# Altium footprint library Magway.PcbLib: 38 footprints (part 2 of 3)
Each footprint in its own frame and in the unit in brackets; x right, y up, seen from the top. Pads: shape width x height; smd on the part's side, far side on the other; paste and mask are expansions set on the pad; w line width, h text height; cw(c..) or ccw(c..) is an arc to the next point about the centre after c.
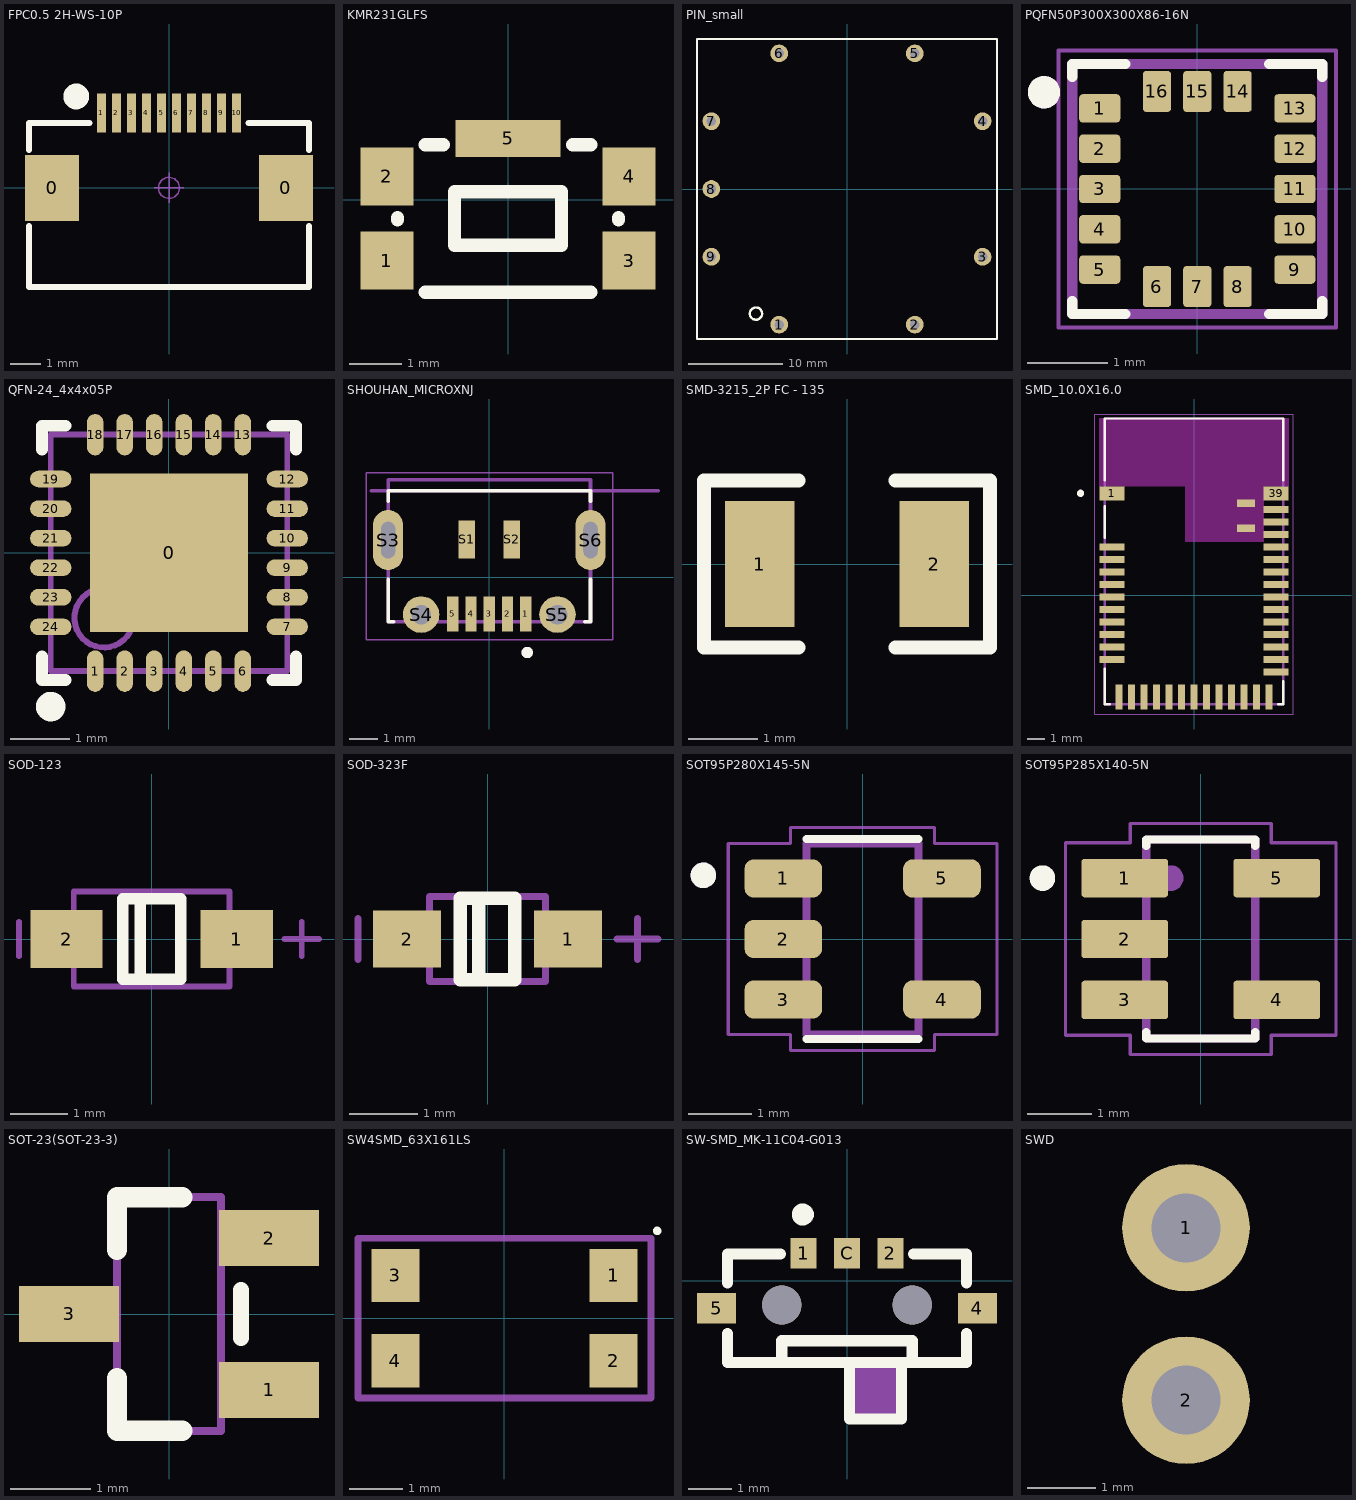
[diagram p1: the footprints below, top view; thin cyan lines are the x and y axes]

## FPC0.5 2H-WS-10P [mm] "长：9.2mm，宽：5.2mm，高：2mm 淘宝ID:黄晶宝石   店铺网址:https://shop463601444.taobao.com"
pads (12):
  rect 1.8x2.2 smd: 0(-3.9,0) 0(3.9,0)
  rect 0.3x1.3 smd: 1(-2.25,2.497) 2(-1.75,2.497) 3(-1.25,2.497) 4(-0.75,2.497) 5(-0.25,2.497) 6(0.25,2.497) 7(0.75,2.497) 8(1.25,2.497) 9(1.75,2.497) 10(2.25,2.497)
Top Overlay:
  circle w0.5: c-3.094,3.048 r0.18
  lines w0.2: -4.675,-1.27 -4.675,-3.302 4.675,-3.302 4.675,-1.27 ; -4.675,1.27 -4.675,2.159 -2.643,2.159 ; 2.643,2.159 4.675,2.159 4.675,1.27
Mechanical 15:
  circle w0.05: c0,0 r0.35
  lines w0.05: -0.5,0 0.5,0 ; 0,-0.5 0,0.5
3D body "FPC0.5_2H-S-W-10P.STEP": height 2, standoff -0.01, extent -4.6,-3.429 4.6,2.571

## KMR231GLFS [mm]
pads (5):
  rect 1x1.1 smd: 1(-2.3,-1.162) 2(-2.3,0.438) 3(2.3,-1.162) 4(2.3,0.438)
  rect 2x0.7 smd: 5(0,1.162)
Top Overlay:
  lines w0.254: -2.1,-0.381 -2.1,-0.343 ; -1.574,-1.762 1.574,-1.762 ; -1.574,1.038 -1.231,1.038 ; 1.231,1.038 1.574,1.038 ; 2.1,-0.381 2.1,-0.343 ; -1.016,-0.87 -1.016,0.146 1.016,0.146 1.016,-0.87 -1.016,-0.87
Mechanical 15:
  lines w0.003: 0,0.303 0,0.304
3D body "KMR231GULCLFS.stp": height 1.92, standoff -0.02, extent -2.314,-1.654 2.286,1.146

## PIN_small [mil]
pads (9):
  round 74 hole 40: 1(-283,-566) 2(283,-566) 3(566,-283) 4(566,283) 5(283,566) 6(-283,566) 7(-566,283) 8(-566,0) 9(-566,-283)
Top Overlay:
  circle w10: c-380,-520 r25.5
  lines w10: -626,-626 -626,626 626,626 626,-626 -626,-626

## PQFN50P300X300X86-16N [mm]
pads (16):
  rrect25% 0.51x0.35 smd: 1(-1.21,1) 2(-1.21,0.5) 3(-1.21,0) 4(-1.21,-0.5) 5(-1.21,-1) 9(1.21,-1) 10(1.21,-0.5) 11(1.21,0) 12(1.21,0.5) 13(1.21,1)
  rrect25% 0.35x0.51 smd: 6(-0.5,-1.21) 7(0,-1.21) 8(0.5,-1.21) 14(0.5,1.21) 15(0,1.21) 16(-0.5,1.21)
Top Overlay:
  circle w0.2: c-1.9,1.2 r0.1
  lines w0.127: -1.55,-1.39 -1.55,-1.55 -0.89,-1.55 ; -1.55,1.39 -1.55,1.55 -0.89,1.55 ; 0.89,-1.55 1.55,-1.55 1.55,-1.39 ; 0.89,1.55 1.55,1.55 1.55,1.39
Mechanical 13:
  circle w0.2: c-1.9,1.2 r0.1
  lines w0.127: -1.55,-1.55 1.55,-1.55 1.55,1.55 -1.55,1.55 -1.55,-1.55
Mechanical 15:
  lines w0.05: -1.72,-1.72 1.72,-1.72 1.72,1.72 -1.72,1.72 -1.72,-1.72

## QFN-24_4x4x05P [mm]
pads (25):
  rect 2.68x2.68 smd mask+0.051: 0(0,0)
  oval 0.28x0.7 smd mask+0.051: 1(-1.25,-2) 2(-0.75,-2) 3(-0.25,-2) 4(0.25,-2) 5(0.75,-2) 6(1.25,-2) 13(1.25,2) 14(0.75,2) 15(0.25,2) 16(-0.25,2) 17(-0.75,2) 18(-1.25,2)
  oval 0.7x0.28 smd mask+0.051: 7(2,-1.25) 8(2,-0.75) 9(2,-0.25) 10(2,0.25) 11(2,0.75) 12(2,1.25) 19(-2,1.25) 20(-2,0.75) 21(-2,0.25) 22(-2,-0.25) 23(-2,-0.75) 24(-2,-1.25)
Top Overlay:
  circle w0.25: c-2,-2.6 r0.125
  lines w0.2: -2.15,-1.75 -2.15,-2.15 -1.75,-2.15 ; -2.15,1.75 -2.15,2.15 -1.75,2.15 ; 1.75,-2.15 2.15,-2.15 2.15,-1.75 ; 1.75,2.15 2.15,2.15 2.15,1.75
Mechanical 13:
  circle w0.1: c-1.1,-1.1 r0.5
  lines w0.1: -2,-2 2,-2 2,2 -2,2 -2,-2

## SHOUHAN_MICROXNJ [mm]
pads (11):
  rect 0.4x1.25 smd: 1(1.3,-1.312) 2(0.65,-1.312) 3(0,-1.312) 4(-0.65,-1.312) 5(-1.3,-1.312)
  rect 0.6x1.35 smd: S1(-0.8,1.338) S2(0.8,1.338)
  oval 1.07x2.14 hole 0.5 slot 1.3 at 90 deg: S3(-3.6,1.313) S6(3.6,1.313)
  round 1.3 hole 0.7: S4(-2.425,-1.337) S5(2.425,-1.337)
Top Overlay:
  circle w0.2: c1.35,-2.688 r0.1
  lines w0.127: -3.6,-0.077 -3.6,-1.597 -3.395,-1.597 ; -3.6,2.703 -3.6,3.063 3.6,3.063 3.6,2.703 ; 3.395,-1.597 3.6,-1.597 3.6,-0.077
Mechanical 13:
  circle w0.2: c1.35,-2.688 r0.1
  lines w0.127: -4.2,3.063 6,3.063 ; -3.6,-1.597 3.6,-1.597 3.6,3.463 -3.6,3.463 -3.6,-1.597
  text "PCB EDGE" at 5.08,3.429 h0.61
Mechanical 15:
  lines w0.05: -4.385,-2.237 4.385,-2.237 4.385,3.713 -4.385,3.713 -4.385,-2.237

## SMD-3215_2P FC - 135 [mm]
pads (2):
  rect 1x1.8 smd: 1(-1.25,0) 2(1.25,0)
Top Overlay:
  lines w0.2: -0.695,-1.2 -2.05,-1.2 -2.05,1.2 -0.695,1.2 ; 0.695,-1.2 2.05,-1.2 2.05,1.2 0.695,1.2
3D body "ABS07-32.768KHZ-T--3DModel-STEP-400430.STEP": height 0.89, standoff 0, extent -1.549,-0.749 1.651,0.749

## SMD_10.0X16.0 [mm]
pads (41):
  rect 1.4x0.8 smd: 1(-4.6,5.7) 39(4.6,5.7)
  rect 1.4x0.4 smd: 2(-4.6,2.7) 3(-4.6,2) 4(-4.6,1.3) 5(-4.6,0.6) 6(-4.6,-0.1) 7(-4.6,-0.8) 8(-4.6,-1.5) 9(-4.6,-2.2) 10(-4.6,-2.9) 11(-4.6,-3.6) 25(4.6,-4.3) 26(4.6,-3.6) 27(4.6,-2.9) 28(4.6,-2.2) 29(4.6,-1.5) 30(4.6,-0.8) 31(4.6,-0.1) 32(4.6,0.6) 33(4.6,1.3) 34(4.6,2) 35(4.6,2.7) 36(4.6,3.4) 37(4.6,4.1) 38(4.6,4.8)
  rect 0.4x1.4 smd: 12(-4.2,-5.7) 13(-3.5,-5.7) 14(-2.8,-5.7) 15(-2.1,-5.7) 16(-1.4,-5.7) 17(-0.7,-5.7) 18(0,-5.7) 19(0.7,-5.7) 20(1.4,-5.7) 21(2.1,-5.7) 22(2.8,-5.7) 23(3.5,-5.7) 24(4.2,-5.7)
  rect 1x0.4 smd: 40(2.9,5.15) 41(2.9,3.75)
Top Overlay:
  circle w0.2: c-6.35,5.71 r0.1
  lines w0.127: -5,-4.12 -5,-6.1 -4.72,-6.1 ; -5,3.22 -5,4.98 ; -5,6.42 -5,9.9 5,9.9 5,6.42 ; 4.72,-6.1 5,-6.1 5,-4.82
Keep-Out Layer:
  region: 5.3,6.1 -5.3,6.1 -5.3,9.9 5.3,9.9
  region: 5.3,6.1 -5.3,6.1 -5.3,9.9 5.3,9.9
  region: 3.9,3 -0.5,3 -0.5,6.1 3.9,6.1
  region: 5.3,6.1 -5.3,6.1 -5.3,9.9 5.3,9.9
Mechanical 13:
  circle w0.2: c-6.35,5.71 r0.1
  lines w0.127: -5,-6.1 -5,9.9 5,9.9 5,-6.1 -5,-6.1
  text "Toplayer no ground pad" at 6.604,4.318 h0.51
  text "No ground pad" at -3.937,8.255 h0.64
Mechanical 15:
  lines w0.05: -5.55,-6.65 5.55,-6.65 5.55,10.15 -5.55,10.15 -5.55,-6.65
3D body "mdbt42q.stp": height 2.2, standoff 0, extent -5,-6.095 5,9.905

## SOD-123 [mm]
pads (2):
  rect 1.25x1 smd: 1(1.475,0) 2(-1.475,0)
Top Overlay:
  lines w0.2: -0.2,-0.7 -0.2,0.7 ; -0.5,-0.7 -0.5,0.7 0.5,0.7 0.5,-0.7 -0.5,-0.7
Mechanical 13:
  lines w0.1: -1.35,-0.825 1.35,-0.825 1.35,0.825 -1.35,0.825 -1.35,-0.825
Mechanical 15:
  lines w0.1: -2.3,-0.3 -2.3,0.3 ; 2.3,0 2.9,0 ; 2.6,-0.3 2.6,0.3
3D body "SOD123.STEP": height 1.35, standoff 0, extent -1.85,-0.775 1.85,0.775

## SOD-323F [mm]
pads (2):
  rect 1x0.83 smd: 1(1.18,0) 2(-1.18,0)
Top Overlay:
  lines w0.2: -0.13,-0.6 -0.13,0.6 ; -0.4,-0.6 -0.4,0.6 0.4,0.6 0.4,-0.6 -0.4,-0.6
Mechanical 13:
  lines w0.1: -0.85,-0.625 0.85,-0.625 0.85,0.625 -0.85,0.625 -0.85,-0.625
Mechanical 15:
  lines w0.1: -1.9,-0.3 -1.9,0.3 ; 1.9,0 2.5,0 ; 2.2,-0.3 2.2,0.3
3D body "SOD323F.STEP": height 0.75, standoff -0.01, extent -1.4,-0.675 1.4,0.675

## SOT95P280X145-5N [mm]
pads (5):
  rrect50% 1.22x0.6 smd: 1(-1.245,0.95) 2(-1.245,0) 3(-1.245,-0.95) 4(1.245,-0.95) 5(1.245,0.95)
Top Overlay:
  circle w0.2: c-2.5,1 r0.1
  lines w0.127: -0.88,-1.57 0.88,-1.57 ; -0.88,1.57 0.88,1.57
Mechanical 13:
  circle w0.2: c-2.5,1 r0.1
  lines w0.127: -0.88,-1.5 0.88,-1.5 0.88,1.5 -0.88,1.5 -0.88,-1.5
Mechanical 15:
  lines w0.05: -2.11,-1.5 -2.11,1.5 -1.13,1.5 -1.13,1.75 1.13,1.75 1.13,1.5 2.11,1.5 2.11,-1.5 1.13,-1.5 1.13,-1.75 -1.13,-1.75 -1.13,-1.5 -2.11,-1.5
3D body "OT.STEP": height 1.45, standoff 0, extent -1.35,-1.45 1.35,1.45

## SOT95P285X140-5N [mm]
pads (5):
  rrect15% 1.35x0.6 smd: 1(-1.185,0.95) 2(-1.185,0) 3(-1.185,-0.95) 4(1.185,-0.95) 5(1.185,0.95)
Top Overlay:
  circle w0.2: c-2.469,0.95 r0.1
  lines w0.127: -0.85,-1.45 -0.85,-1.55 0.85,-1.55 0.85,-1.45 ; -0.85,1.45 -0.85,1.55 0.85,1.55 0.85,1.45
Mechanical 13:
  circle w0.2: c-0.469,0.95 r0.1
  lines w0.127: -0.85,-1.55 0.85,-1.55 0.85,1.55 -0.85,1.55 -0.85,-1.55
Mechanical 15:
  lines w0.05: -2.11,-1.5 -2.11,1.5 -1.1,1.5 -1.1,1.8 1.1,1.8 1.1,1.5 2.11,1.5 2.11,-1.5 1.1,-1.5 1.1,-1.8 -1.1,-1.8 -1.1,-1.5 -2.11,-1.5
3D body "AP2112K-3.3TRG1--3DModel-STEP-56544.STEP": height 1.4, standoff 0, extent -1.4,-1.5 1.4,1.5

## SOT-23(SOT-23-3) [mm]
pads (3):
  rect 1.25x0.7 smd: 1(1.25,-0.95) 2(1.25,0.95) 3(-1.25,0)
Top Overlay:
  lines w0.2: 0.9,-0.3 0.9,0.3
  lines w0.254: -0.65,-0.8 -0.65,-1.46 0.165,-1.46 ; 0.165,1.46 -0.65,1.46 ; -0.65,0.8 -0.65,1.46 ; -0.65,0.8 -0.65,1.46 ; -0.65,0.8 -0.65,1.46
Mechanical 13:
  lines w0.1: -0.65,-1.46 -0.65,1.46 ; -0.65,-1.46 0.65,-1.46 ; -0.65,-1.46 0.65,-1.46 ; -0.65,-1.46 -0.65,1.46 ; -0.65,-1.46 0.65,-1.46 ; -0.65,-1.46 -0.65,1.46 ; -0.65,1.46 0.65,1.46 ; -0.65,1.46 0.65,1.46 ; -0.65,1.46 0.65,1.46 ; 0.65,-1.46 0.65,1.46 ; 0.65,-1.46 0.65,1.46 ; 0.65,-1.46 0.65,1.46
3D body "SOT-23.step": height 1.3, standoff 0, extent -1.5,-1.5 1.5,1.5

## SW4SMD_63X161LS [mm]
pads (4):
  rect 0.9x1 smd: 1(2.05,0.8) 2(2.05,-0.8) 3(-2.05,0.8) 4(-2.05,-0.8)
Top Overlay:
  circle w0.127: c2.867,1.637 r0.016
Mechanical 13:
  lines w0.127: -2.75,-1.5 2.75,-1.5 2.75,1.5 -2.75,1.5 -2.75,-1.5

## SW-SMD_MK-11C04-G013 [mm]
pads (7):
  rect 0.6x0.7 smd: 1(-1,0.63) 2(1,0.63) C(0,0.63)
  rect 0.9x0.7 smd: 4(3,-0.63) 5(-3,-0.63)
  round 0.9 hole 0.9 unplated: ""(-1.5,-0.555) ""(1.5,-0.555)
Top Overlay:
  circle w0.254: c-1.016,1.524 r0.127
  lines w0.254: -2.75,-1.211 -2.75,-1.88 2.75,-1.88 2.75,-1.211 ; -2.75,-0.049 -2.75,0.62 -1.531,0.62 ; -1.052,-1.88 -1.501,-1.88 -1.501,-1.379 1.501,-1.379 1.501,-1.88 ; 0.054,-1.88 0.054,-3.18 1.254,-3.18 1.254,-1.88 ; 1.531,0.62 2.75,0.62 2.75,-0.049
Mechanical 15:
  region: 0.06,-1.92 1.28,-1.92 1.29,-1.93 1.29,-3.15 0.07,-3.15 0.06,-3.14

## SWD [mil]
pads (2):
  round 74 hole 40: 1(-9158,-2716) 2(-9158,-2816)